# EAGLE library part NE5534-OP-AMP (library jim_muppet_parts)
NE5534x, SA5534x Low-Noise Operational Amplifiers
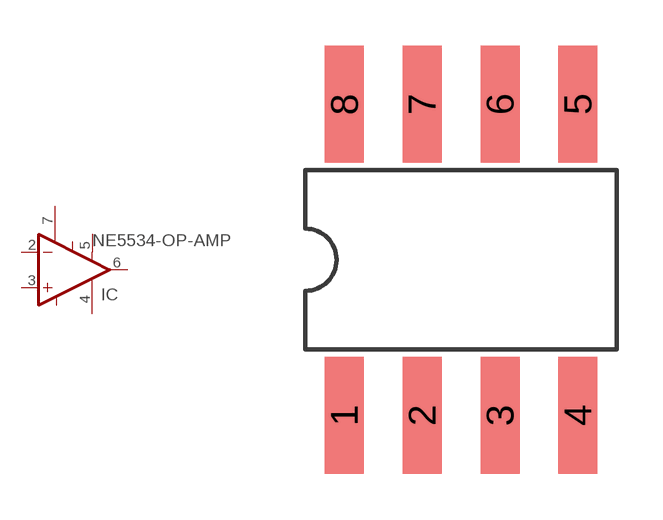
[diagram p8: symbol with the pads of DIL08; footprint DIL08]

Designator prefix IC

## NE5534-OP-AMPDIL8  [DIL08]
1  BALANCE  pas
2  -IN  in
3  +IN  in
4  VCC-GND  pwr
5  COMP  pas
6  OUT  out
7  VCC+  pwr
8  COMP/BAL  pas

## Footprint DIL08 (pad centres in mm)
Dual In Line Package
smd 1.27 x 3.81: 1 -3.81,-5.08; 2 -1.27,-5.08; 3 1.27,-5.08; 4 3.81,-5.08; 5 3.81,5.08; 6 1.27,5.08; 7 -1.27,5.08; 8 -3.81,5.08